# Altium footprint library HgLib.PcbLib: 86 footprints (part 1 of 6)
Each footprint in its own frame and in the unit in brackets; x right, y up, seen from the top. Pads: shape width x height; smd on the part's side, far side on the other; paste and mask are expansions set on the pad; w line width, h text height; cw(c..) or ccw(c..) is an arc to the next point about the centre after c.
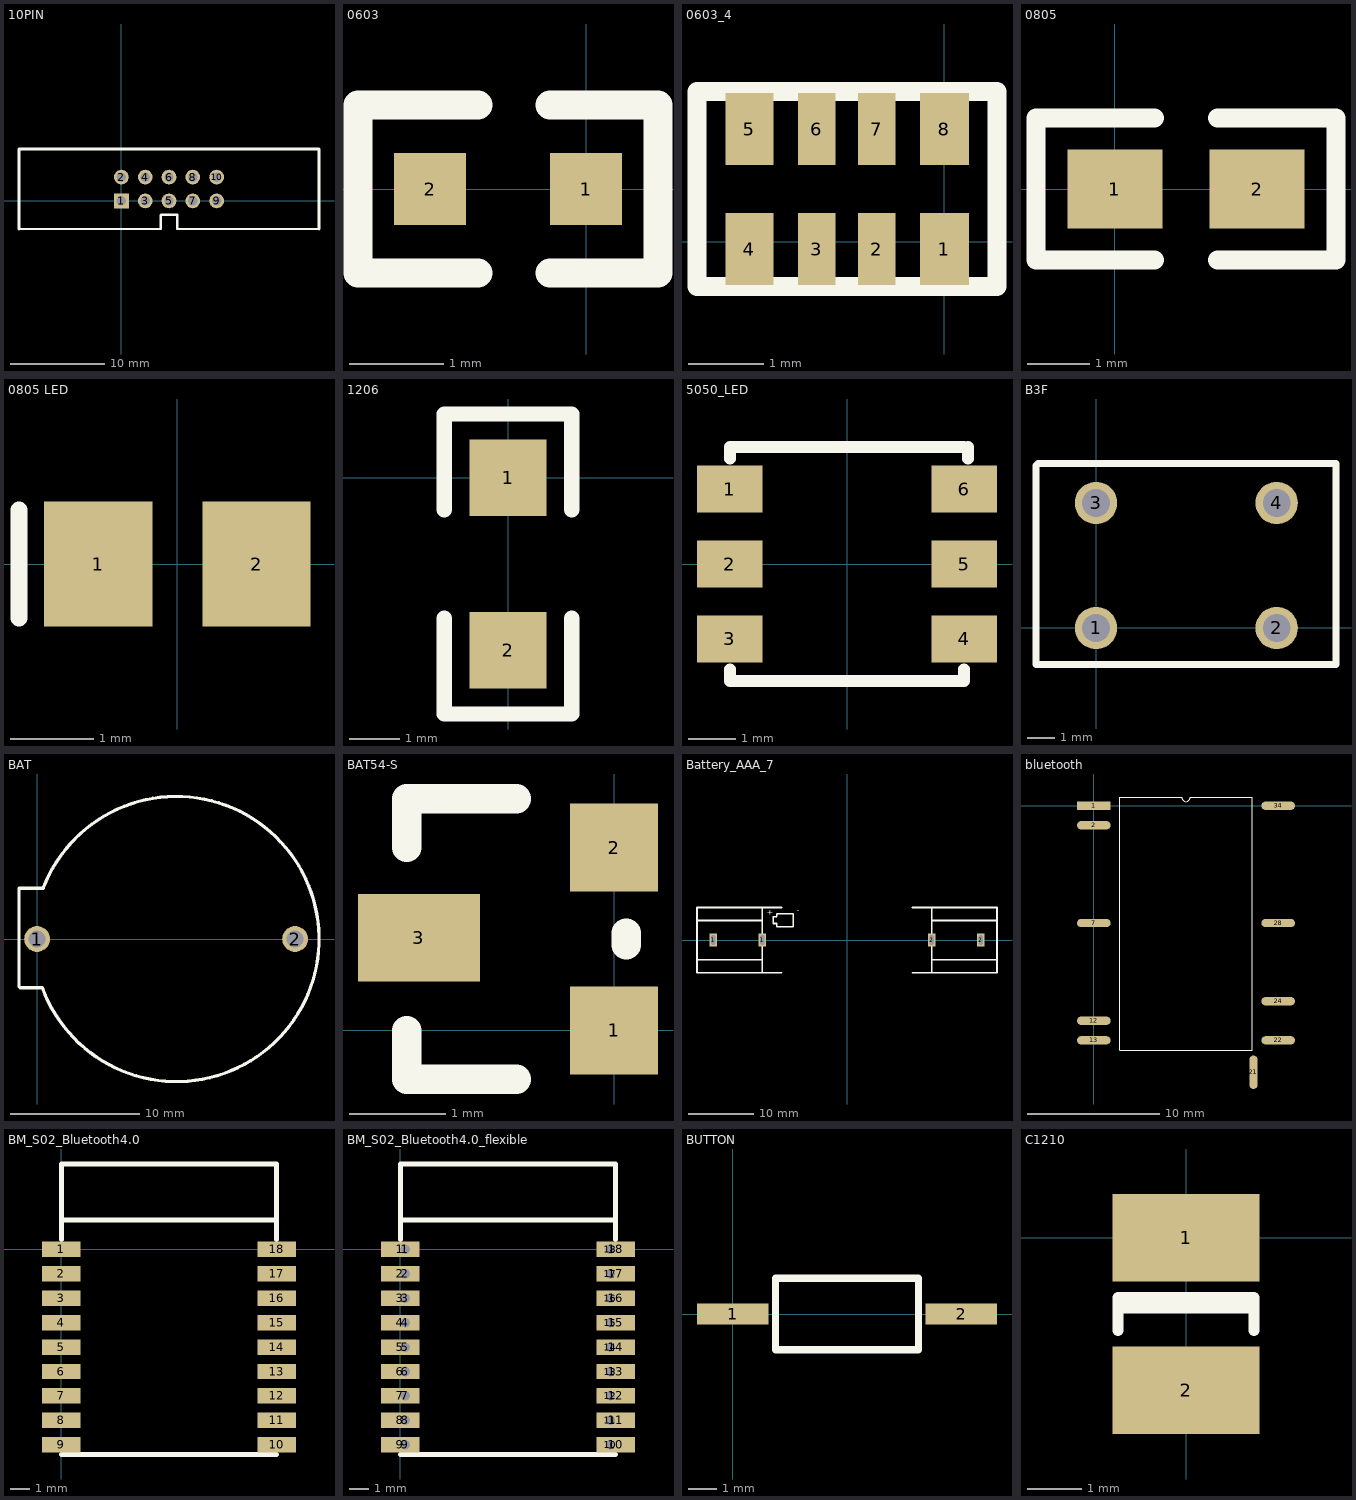
[diagram p0: the footprints below, top view; thin cyan lines are the x and y axes]

## 10PIN [mil]
pads (10):
  rect 62x62 / inner round 0 / far side round 0 hole 39.37 mask+4: 1(0,0)
  round 62 / inner round 0 / far side round 0 hole 39.37 mask+4: 2(0,100) 3(100,0) 4(100,100) 5(200,0) 6(200,100) 7(300,0) 8(300,100) 9(400,0) 10(400,100)
Top Overlay:
  lines w10: -429.92,-118.11 165.89,-118.11 165.89,-60.11 168,-58 234,-58 234,-117 235.11,-118.11 829.92,-118.11
  lines w12: -429.92,-118.11 -429.92,218.11 829.92,218.11 829.92,-118.11

## 0603 [mil]
pads (2):
  rect 30x30 smd: 1(0,0) 2(-65,0)
Top Overlay:
  lines w12: -45,-35 -95,-35 -95,35 -45,35 ; -15,-35 30,-35 30,35 -15,35

## 0603_4 [mm]
pads (8):
  rect 0.65x0.962 smd: 1(0,-0.1) 8(0,1.5)
  rect 0.5x0.962 smd: 2(-0.9,-0.1) 3(-1.7,-0.1) 6(-1.7,1.5) 7(-0.9,1.5)
  rect 0.64x0.962 smd: 4(-2.6,-0.1) 5(-2.6,1.5)
Top Overlay:
  lines w0.254: -3.3,-0.6 0.7,-0.6 0.7,2 -3.3,2 -3.3,-0.6

## 0805 [mil]
pads (2):
  rect 60x50 smd mask+4: 1(0,0) 2(90,0)
Top Overlay:
  lines w12: 25,-45 -50,-45 -50,45 25,45 ; 65,-45 140,-45 140,45 65,45

## 0805 LED [mm] "Chip Capacitor; Body 2.0 x 1.2 mm (LxW typ)"
height 1.3
pads (2):
  rect 1.3x1.5 smd: 1(-0.95,0) 2(0.95,0)
Top Overlay:
  lines w0.2: -1.9,-0.65 -1.9,0.65

## 1206 [mil]
pads (2):
  rect 60x60 smd mask+4: 1(0,0) 2(0,-135)
Top Overlay:
  lines w12: -50,-110 -50,-185 50,-185 50,-110 ; -50,-25 -50,50 50,50 50,-25

## 5050_LED [mm]
pads (6):
  rect 1.4x1 smd: 1(-2.5,1.6) 2(-2.5,0) 3(-2.5,-1.6) 4(2.5,-1.6) 5(2.5,0) 6(2.5,1.6)
Top Overlay:
  lines w0.254: -2.5,-2.246 -2.5,-2.5 2.5,-2.5 2.5,-2.246 ; -2.5,2.246 -2.5,2.5 2.5,2.5 ; 2.58,2.246 2.58,2.5

## B3F [mil]
pads (4):
  round 60 / inner round 0 / far side round 0 hole 39.37 mask+4: 1(0,0) 2(255.91,0) 3(0,177.16) 4(255.91,177.16)
Top Overlay:
  lines w10: -85.09,-51.84 339.91,-51.84 339.91,233.16 -82.09,233.16 -85.09,230.16 -85.09,-51.84

## BAT [mm]
pads (2):
  round 2 / inner round 0 / far side round 0 hole 1.3 mask+0.102: 1(0,0) 2(20,0)
Top Overlay:
  lines w0.254: -1.4,-3.7 -1.4,3.95 -1.375,3.925 0.471,3.925 cw(c10.8,0) 0.416,-3.779 -1.321,-3.779

## BAT54-S [mil]
pads (3):
  rect 36x36 smd mask+4: 1(0,0) 2(0,75)
  rect 50x36 smd mask+4: 3(-80,38)
Top Overlay:
  lines w12: -85,0 -85,-20 -40,-20 ; -85,75 -85,95 -40,95 ; 5,35 5,40

## Battery_AAA_7 [mm]
pads (4):
  rect 1.2x2 hole 0.6 slot 1.5 at 90 deg: 1(-20.5,0) 1(-13,0) 2(13,0) 2(20.5,0)
Top Overlay:
  lines w0.254: -23,-3 -13,-3 ; -23,3 -13,3 ; -10,-5 -13,-5 ; -10,5 -13,5 ; 10,-5 13,-5 ; 10,5 13,5 ; 13,-3 23,-3 ; 13,3 23,3 ; -13,-5 -13,5 ; -13,-5 -23,-5 -23,5 -13,5 ; 13,-5 23,-5 23,5 13,5 ; 13,-5 13,5 ; -11.316,2.54 -10.776,2.54 -10.776,2.032 -10.046,2.032 -8.236,2.032 -8.236,4.064 -9.125,4.064 -9.887,4.064 -10.776,4.064 -10.776,3.556 -11.284,3.556 -11.316,3.524 -11.316,2.794 -11.316,2.54
  text "+" at -12.3,3.556 h1.52
  text "-" at -7.728,3.81 h1.52

## bluetooth [mm] "bluetooth"
pads (10):
  rect 2.54x0.635 smd: 1(0,0)
  oval 2.54x0.635 smd: 2(0,-1.482) 7(0,-8.89) 12(0,-16.298) 13(0,-17.78) 22(13.97,-17.78) 24(13.97,-14.817) 28(13.97,-8.89) 34(13.97,0)
  oval 0.635x2.54 smd: 21(12.1,-20.2)
Top Overlay:
  lines w0.051: 1.956,-18.542 1.956,0.635 6.667,0.635 ccw(c6.985,0.635) 7.302,0.635 12.014,0.635 12.014,-18.542 1.956,-18.542

## BM_S02_Bluetooth4.0 [mm]
pads (18):
  rect 2x0.8 smd: 1(0,0) 2(0,-1.27) 3(0,-2.54) 4(0,-3.81) 5(0,-5.08) 6(0,-6.35) 7(0,-7.62) 8(0,-8.89) 9(0,-10.16) 10(11.2,-10.16) 11(11.2,-8.89) 12(11.2,-7.62) 13(11.2,-6.35) 14(11.2,-5.08) 15(11.2,-3.81) 16(11.2,-2.54) 17(11.2,-1.27) 18(11.2,0)
Top Overlay:
  lines w0.254: 0,-10.66 11.2,-10.66 ; 0,0.508 0,4.44 11.2,4.44 11.2,0.508 ; 0,1.524 11.2,1.524

## BM_S02_Bluetooth4.0_flexible [mm]
pads (36):
  rect 2x0.8 smd: 1(0,0) 2(0,-1.27) 3(0,-2.54) 4(0,-3.81) 5(0,-5.08) 6(0,-6.35) 7(0,-7.62) 8(0,-8.89) 9(0,-10.16) 10(11.2,-10.16) 11(11.2,-8.89) 12(11.2,-7.62) 13(11.2,-6.35) 14(11.2,-5.08) 15(11.2,-3.81) 16(11.2,-2.54) 17(11.2,-1.27) 18(11.2,0)
  round 0.8 hole 0.5: 1(0.254,0) 2(0.254,-1.27) 3(0.254,-2.54) 4(0.254,-3.81) 5(0.254,-5.08) 6(0.254,-6.35) 7(0.254,-7.62) 8(0.254,-8.89) 9(0.254,-10.16) 10(10.922,-10.16) 11(10.922,-8.89) 12(10.922,-7.62) 13(10.922,-6.35) 14(10.922,-5.08) 15(10.922,-3.81) 16(10.922,-2.54) 17(10.922,-1.27) 18(10.922,0)
Top Overlay:
  lines w0.254: 0,-10.66 11.2,-10.66 ; 0,0.508 0,4.44 11.2,4.44 11.2,0.508 ; 0,1.524 11.2,1.524

## BUTTON [mil] "pad"
pads (2):
  rect 100x30 smd: 1(0,0) 2(320,0)
Top Overlay:
  lines w10: 60,-50 60,50 260,50 260,-50 60,-50

## C1210 [mm]
pads (2):
  rect 2.7x1.6 smd: 1(0,0) 2(0,-2.8)
Top Overlay:
  lines w0.2: -1.25,-1.7 -1.25,-1.1 1.25,-1.1 1.25,-1.7 ; -1.25,-1.29 1.25,-1.29